# Altium schematic symbol library pwr_onoff_toggle.SchLib: 7 symbols
Pins are listed as number, name and electrical type; pins without a type are passive.

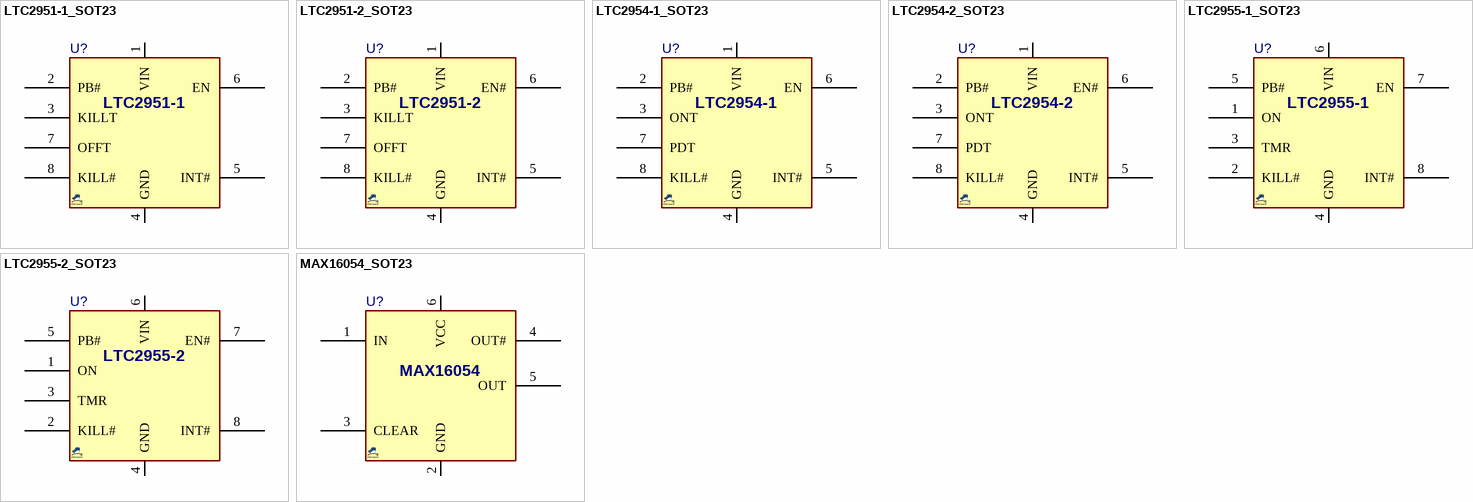
[diagram p0: symbols LTC2951-1_SOT23 to MAX16054_SOT23]

## LTC2951-1_SOT23
designator U?, comment LTC2951-1  (value not drawn)
Pushbutton On/Off Controller; MANF: Analog Devices; MANF_P#: LTC2951ITS8-1; PARAM2: 2.7~26.4Vcc; PARAM: -40~85°C; VALUE: LTC2951-1; PACKAGE: SOT-23-8
footprint SOT23_8 (SOT23, 8-Leads, DCN, DDF, 1.5x3mm, Pitch 0.65mm)
pins: 1 VIN, 2 PB#, 3 KILLT, 4 GND, 5 INT#, 6 EN, 7 OFFT, 8 KILL#

## LTC2951-2_SOT23
designator U?, comment LTC2951-2  (value not drawn)
Pushbutton On/Off Controller; MANF: Analog Devices; MANF_P#: LTC2951ITS8-2; PARAM2: 2.7~26.4Vcc; PARAM: -40~85°C; VALUE: LTC2951-2; PACKAGE: SOT-23-8
footprint SOT23_8 (SOT23, 8-Leads, DCN, DDF, 1.5x3mm, Pitch 0.65mm)
pins: 1 VIN, 2 PB#, 3 KILLT, 4 GND, 5 INT#, 6 EN#, 7 OFFT, 8 KILL#

## LTC2954-1_SOT23
designator U?, comment LTC2954-1  (value not drawn)
Pushbutton On/Off Controller; MANF: Analog Devices; MANF_P#: LTC2954ITS8-1; PARAM2: 2.7~26.4Vcc; PARAM: -40~85°C; VALUE: LTC2954-1; PACKAGE: SOT-23-8
footprint SOT23_8 (SOT23, 8-Leads, DCN, DDF, 1.5x3mm, Pitch 0.65mm)
pins: 1 VIN, 2 PB#, 3 ONT, 4 GND, 5 INT#, 6 EN, 7 PDT, 8 KILL#

## LTC2954-2_SOT23
designator U?, comment LTC2954-2  (value not drawn)
Pushbutton On/Off Controller; MANF: Analog Devices; MANF_P#: LTC2954ITS8-2; PARAM2: 2.7~26.4Vcc; PARAM: -40~85°C; VALUE: LTC2954-2; PACKAGE: SOT-23-8
footprint SOT23_8 (SOT23, 8-Leads, DCN, DDF, 1.5x3mm, Pitch 0.65mm)
pins: 1 VIN, 2 PB#, 3 ONT, 4 GND, 5 INT#, 6 EN#, 7 PDT, 8 KILL#

## LTC2955-1_SOT23
designator U?, comment LTC2955-1  (value not drawn)
Pushbutton On/Off Controller; MANF: Analog Devices; MANF_P#: LTC2955ITS8-1; PARAM2: 1.5~36Vcc; PARAM: -40~85°C; VALUE: LTC2955-1; PACKAGE: SOT-23-8
footprint SOT23_8 (SOT23, 8-Leads, DCN, DDF, 1.5x3mm, Pitch 0.65mm)
pins: 1 ON, 2 KILL#, 3 TMR, 4 GND, 5 PB#, 6 VIN, 7 EN, 8 INT#

## LTC2955-2_SOT23
designator U?, comment LTC2955-2  (value not drawn)
Pushbutton On/Off Controller; MANF: Analog Devices; MANF_P#: LTC2955ITS8-2; PARAM2: 1.5~36Vcc; PARAM: -40~85°C; VALUE: LTC2955-2; PACKAGE: SOT-23-8
footprint SOT23_8 (SOT23, 8-Leads, DCN, DDF, 1.5x3mm, Pitch 0.65mm)
pins: 1 ON, 2 KILL#, 3 TMR, 4 GND, 5 PB#, 6 VIN, 7 EN#, 8 INT#

## MAX16054_SOT23
designator U?, comment MAX16054  (value not drawn)
Pushbutton On/Off Controller; MANF: Maxim Integrated; MANF_P#: MAX16054AZT+; PARAM2: 2.7~5.5Vcc; PARAM: -40~125°C; VALUE: MAX16054; PACKAGE: SOT-23-6
footprint SOT23_6 (SOT-23-6, DDC, DBV, MICRO6, SOT-26, SOT457, SuperSOT6, TSOP-6, HMC313, TSOT, 1.5x3mm, Pitch 0.65mm, CA531, MO-178AB, MO-193AA)
pins: 1 IN, 2 GND, 3 CLEAR, 4 OUT#, 5 OUT, 6 VCC